# Altium footprint library Nichicon-RSL-Series.PcbLib: 1 footprints
Each footprint in its own frame and in the unit in brackets; x right, y up, seen from the top. Pads: shape width x height; smd on the part's side, far side on the other; paste and mask are expansions set on the pad; w line width, h text height; cw(c..) or ccw(c..) is an arc to the next point about the centre after c.
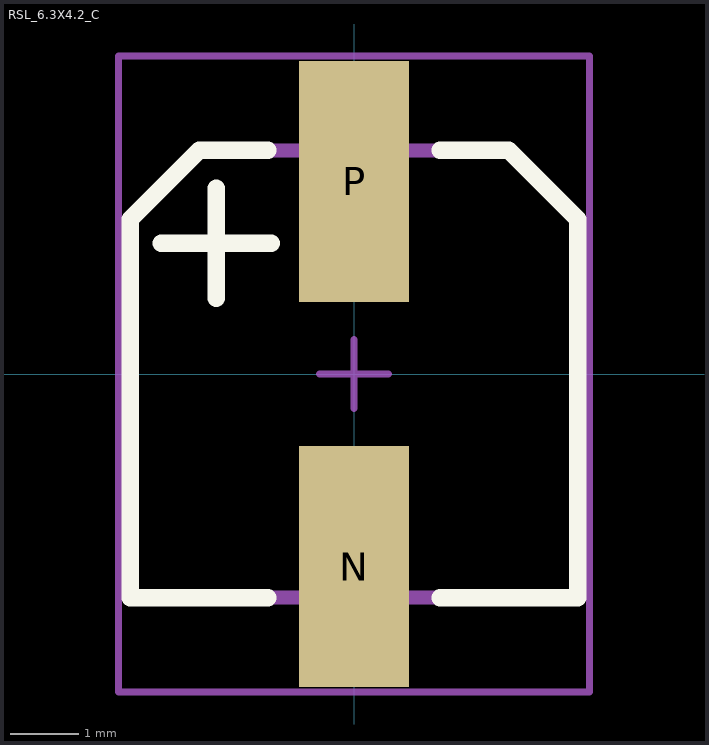
[diagram p0: the footprint, top view; thin cyan lines are the x and y axes]

## RSL_6.3X4.2_C [mm]
height 4.2
pads (2):
  rect 1.6x3.5 smd: N(0,-2.8) P(0,2.8)
Top Overlay:
  lines w0.254: -2.8,1.9 -1.2,1.9 ; -2,1.1 -2,2.7 ; -1.25,-3.25 -3.25,-3.25 -3.25,2.25 -2.25,3.25 -1.25,3.25 ; 1.25,-3.25 3.25,-3.25 3.25,2.25 2.25,3.25 1.25,3.25
Top Assembly:
  lines w0.2: -3.25,-3.25 -3.25,2.25 -2.25,3.25 2.25,3.25 3.25,2.25 3.25,-3.25 -3.25,-3.25
Top Courtyard (Mech15):
  lines w0.1: -0.5,0 0.5,0 ; 0,-0.5 0,0.5 ; -3.425,-4.625 3.425,-4.625 3.425,4.625 -3.425,4.625 -3.425,-4.625
3D body "RSL_NCH.step": height 4.24, standoff 0, extent -3.251,-3.607 3.251,3.607